# EAGLE library part 8SERVO (library Jordan Connectors)
8 Servo connector This connector is designed for 8 servos to be connected, it will work either 90 degrees or straight
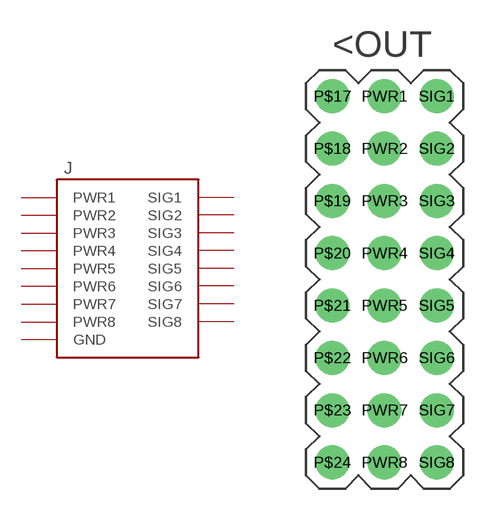
[diagram p0: symbol with the pads of 8SERVO; footprint 8SERVO]

Designator prefix J

## 8SERVO  [8SERVO]
P$17  GND
P$18  GND
P$19  GND
P$20  GND
P$21  GND
P$22  GND
P$23  GND
P$24  GND
PWR1  PWR1
PWR2  PWR2
PWR3  PWR3
PWR4  PWR4
PWR5  PWR5
PWR6  PWR6
PWR7  PWR7
PWR8  PWR8
SIG1  SIG1
SIG2  SIG2
SIG3  SIG3
SIG4  SIG4
SIG5  SIG5
SIG6  SIG6
SIG7  SIG7
SIG8  SIG8

## Footprint 8SERVO (pad centres in mm)
drill 1.1: P$17 -2.54,10.16; P$18 -2.54,7.62; P$19 -2.54,5.08; P$20 -2.54,2.54; P$21 -2.54,0; P$22 -2.54,-2.54; P$23 -2.54,-5.08; P$24 -2.54,-7.62; PWR1 0,10.16; PWR2 0,7.62; PWR3 0,5.08; PWR4 0,2.54; PWR5 0,0; PWR6 0,-2.54; PWR7 0,-5.08; PWR8 0,-7.62; SIG1 2.54,10.16; SIG2 2.54,7.62; SIG3 2.54,5.08; SIG4 2.54,2.54; SIG5 2.54,0; SIG6 2.54,-2.54; SIG7 2.54,-5.08; SIG8 2.54,-7.62